# Altium footprint library Cesium_3.PcbLib: 30 footprints (part 2 of 2)
Each footprint in its own frame and in the unit in brackets; x right, y up, seen from the top. Pads: shape width x height; smd on the part's side, far side on the other; paste and mask are expansions set on the pad; w line width, h text height; cw(c..) or ccw(c..) is an arc to the next point about the centre after c.
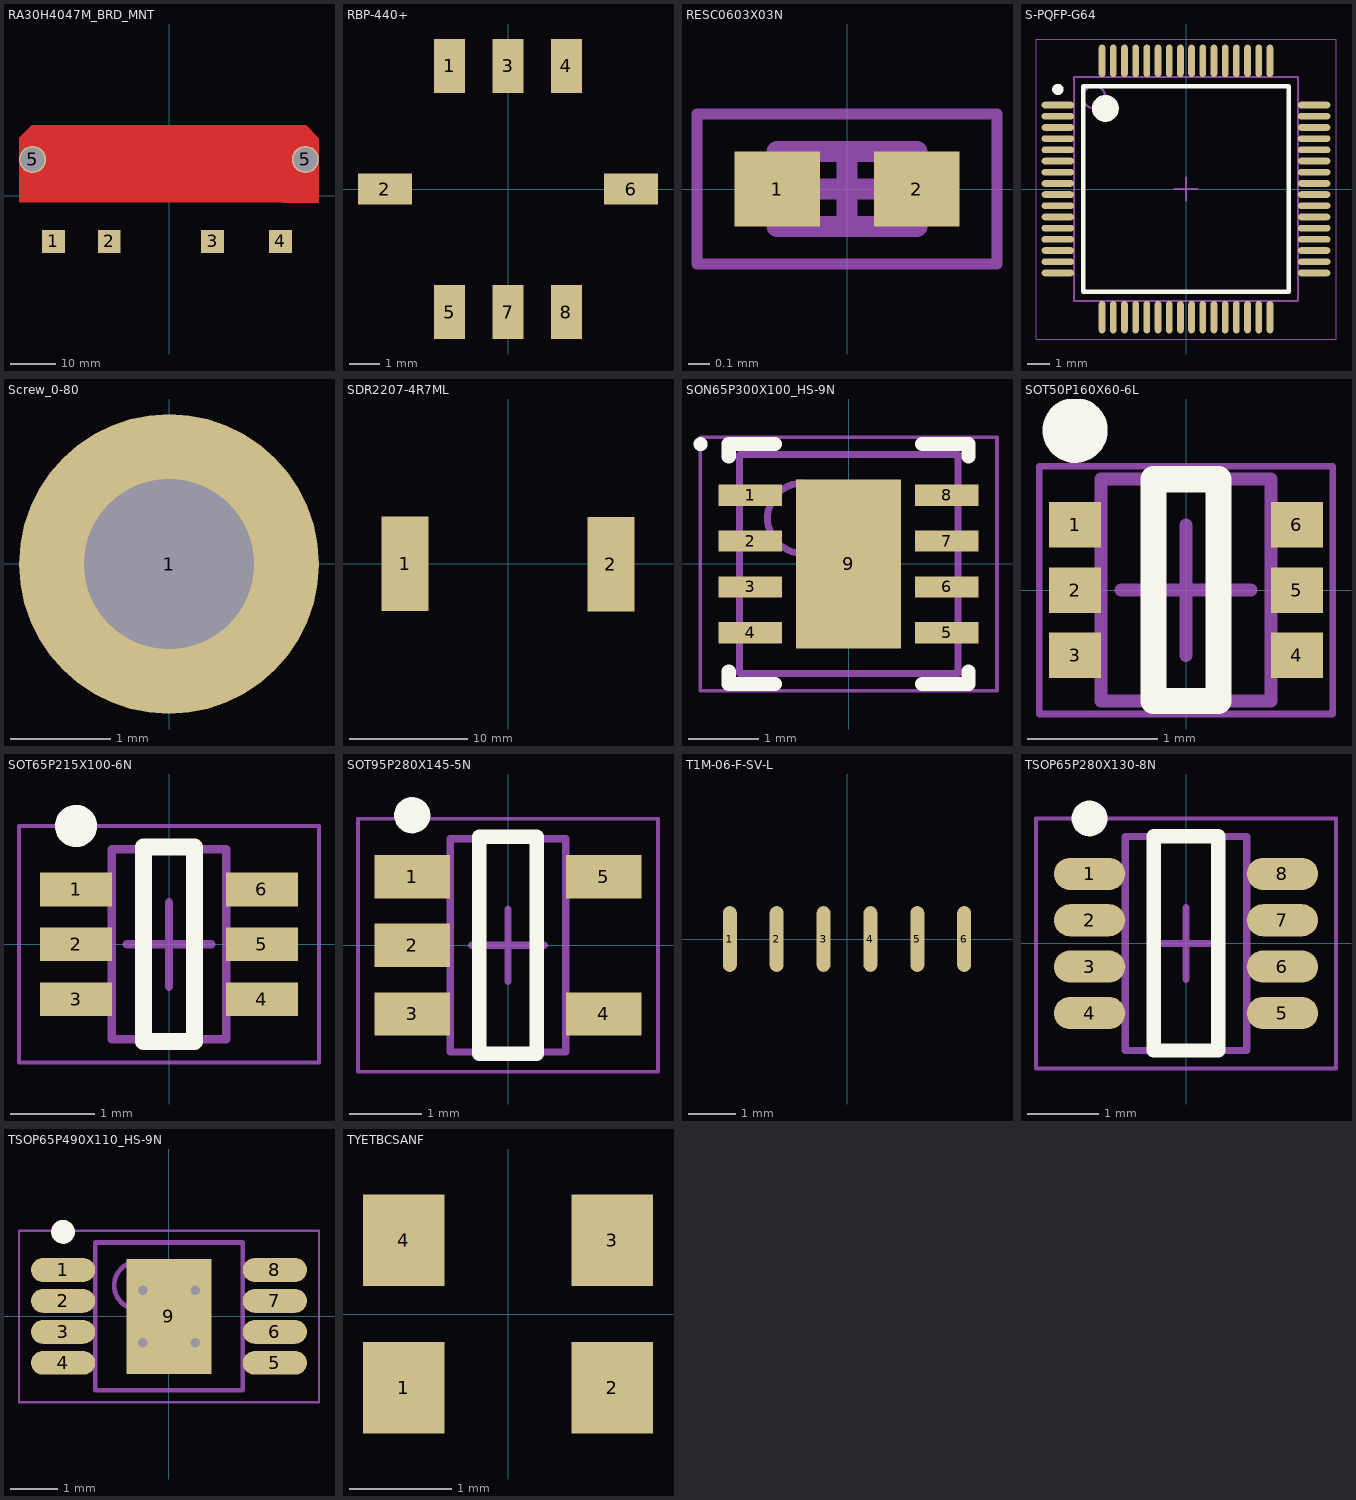
[diagram p1: the footprints below, top view; thin cyan lines are the x and y axes]

## RA30H4047M_BRD_MNT [mm]
pads (6):
  rect 5x5 smd: 1(-25.451,-10.058) 2(-13.132,-10.058) 3(9.601,-10.058) 4(24.562,-10.058)
  round 6 hole 5.3: 5(-30.048,8.001) 5(30.048,8.001)
Top Layer:
  region: -33.02,-1.473 -33.02,12.776 -30.251,15.545 25.3,15.544 25.3,-1.473
  region: -32.36,15.011
  region: -32.36,15.011
  region: 32.995,-1.524 32.995,12.725 30.226,15.494 25.121,15.494 25.121,-1.524
3D body: height 2.73, standoff -2.22, extent -36.4,16.6 -36.4,16.6
3D body: height 2.73, standoff -2.22, extent -36.4,16.6 -36.4,16.6
3D body "534-4891 v1.step": height 1.6, standoff -1.49, extent -33.618,4.434 -26.478,11.568
3D body "RA30H4047M v20.step": height 9.88, standoff -0.05, extent -33,-11.614 33,17.5
3D body "534-4891 v1.step": height 1.6, standoff -1.49, extent 26.478,4.434 33.618,11.568
3D body "92196A143_18-8 STAINLESS STEEL SOCKET HEAD CAP SCREW.STEP": height 5.87, standoff -2.4, extent 27.178,5.131 32.918,10.871
3D body "92196A143_18-8 STAINLESS STEEL SOCKET HEAD CAP SCREW.STEP": height 5.87, standoff -2.4, extent -32.918,5.131 -27.178,10.871

## RBP-440+ [mm]
pads (8):
  rect 1.02x1.78 smd: 1(-1.93,4.065) 3(0,4.065) 4(1.93,4.065) 5(-1.93,-4.065) 7(0,-4.065) 8(1.93,-4.065)
  rect 1.78x1.02 smd: 2(-4.065,0) 6(4.065,0)
3D body: height 2.54, standoff 0, extent -3.5,-3.5 3.5,3.5

## RESC0603X03N [mm] "Chip Resistor, 2-Leads, Body 0.60x0.30mm, IPC Medium Density"
height 0.28
pads (2):
  rect 0.4x0.35 smd: 1(-0.325,0) 2(0.325,0)
Mechanical 13:
  lines w0.1: -0.325,-0.175 -0.325,0.175 0.325,0.175 0.325,-0.175 -0.325,-0.175
Mechanical 15:
  lines w0.05: -0.7,-0.35 -0.7,0.35 0.7,0.35 0.7,-0.35 -0.7,-0.35
  lines w0.1: -0.175,0 0.175,0 ; 0,-0.175 0,0.175
3D body: height 0.28, standoff 0, extent -0.225,-0.175 0.225,0.175
3D body: height 0.28, standoff 0, extent -0.325,-0.175 -0.225,0.175
3D body: height 0.28, standoff 0, extent 0.225,-0.175 0.325,0.175

## S-PQFP-G64 [mm] "TSQFP, 64-Leads, Body 10.00x10.00mm, Pitch 0.50mm, IPC Medium Density"
height 1.6
pads (64):
  oval 1.45x0.3 smd: 1(-5.725,3.75) 2(-5.725,3.25) 3(-5.725,2.75) 4(-5.725,2.25) 5(-5.725,1.75) 6(-5.725,1.25) 7(-5.725,0.75) 8(-5.725,0.25) 9(-5.725,-0.25) 10(-5.725,-0.75) 11(-5.725,-1.25) 12(-5.725,-1.75) 13(-5.725,-2.25) 14(-5.725,-2.75) 15(-5.725,-3.25) 16(-5.725,-3.75) 33(5.725,-3.75) 34(5.725,-3.25) 35(5.725,-2.75) 36(5.725,-2.25) 37(5.725,-1.75) 38(5.725,-1.25) 39(5.725,-0.75) 40(5.725,-0.25) 41(5.725,0.25) 42(5.725,0.75) 43(5.725,1.25) 44(5.725,1.75) 45(5.725,2.25) 46(5.725,2.75) 47(5.725,3.25) 48(5.725,3.75)
  oval 0.3x1.45 smd: 17(-3.75,-5.725) 18(-3.25,-5.725) 19(-2.75,-5.725) 20(-2.25,-5.725) 21(-1.75,-5.725) 22(-1.25,-5.725) 23(-0.75,-5.725) 24(-0.25,-5.725) 25(0.25,-5.725) 26(0.75,-5.725) 27(1.25,-5.725) 28(1.75,-5.725) 29(2.25,-5.725) 30(2.75,-5.725) 31(3.25,-5.725) 32(3.75,-5.725) 49(3.75,5.725) 50(3.25,5.725) 51(2.75,5.725) 52(2.25,5.725) 53(1.75,5.725) 54(1.25,5.725) 55(0.75,5.725) 56(0.25,5.725) 57(-0.25,5.725) 58(-0.75,5.725) 59(-1.25,5.725) 60(-1.75,5.725) 61(-2.25,5.725) 62(-2.75,5.725) 63(-3.25,5.725) 64(-3.75,5.725)
Top Overlay:
  circle w0.6: c-3.6,3.6 r0.3
  circle w0.25: c-5.725,4.45 r0.125
  lines w0.2: -4.6,-4.6 4.6,-4.6 4.6,4.6 -4.6,4.6 -4.6,-4.6
Mechanical 13:
  circle w0.1: c-4.1,4.1 r0.5
  lines w0.1: -5,-5 5,-5 5,5 -5,5 -5,-5
Mechanical 15:
  lines w0.05: -6.7,-6.7 6.7,-6.7 6.7,6.7 -6.7,6.7 -6.7,-6.7
  lines w0.1: -0.5,0 0.5,0 ; 0,-0.5 0,0.5
3D body: height 1.6, standoff 0.25, extent -5,-5 5,5

## Screw_0-80 [mm]
pads (1):
  round 3 hole 1.7: 1(0,0)
3D body "95435A101_TITANIUM SOCKET HEAD CAP SCREW.STEP": height 1.52, standoff -3.18, extent -1.219,-1.219 1.219,1.219

## SDR2207-4R7ML [mm]
pads (2):
  rect 4x8 smd: 1(-8.75,0) 2(8.75,-0.05)
3D body: height 7.8, standoff 0, extent -11,-7.5 11,7.5

## SON65P300X100_HS-9N [mm] "SON, 8-Leads, Body 3.00x3.00mm, Pitch 0.65mm, Thermal Pad 2.40x1.49mm, IPC Medium Density"
height 1
pads (9):
  rect 0.9x0.3 smd: 1(-1.395,0.975) 2(-1.395,0.325) 3(-1.395,-0.325) 4(-1.395,-0.975) 5(1.395,-0.975) 6(1.395,-0.325) 7(1.395,0.325) 8(1.395,0.975)
  rect 1.49x2.4 smd: 9(0,0)
Top Overlay:
  circle w0.1: c-2.1,1.7 r0.05
  lines w0.2: -1.7,-1.525 -1.7,-1.7 -1.045,-1.7 ; -1.7,1.525 -1.7,1.7 -1.045,1.7 ; 1.045,-1.7 1.7,-1.7 1.7,-1.525 ; 1.045,1.7 1.7,1.7 1.7,1.525
Mechanical 13:
  circle w0.1: c-0.65,0.65 r0.5
  lines w0.1: -1.55,-1.55 -1.55,1.55 1.55,1.55 1.55,-1.55 -1.55,-1.55
Mechanical 15:
  lines w0.05: -2.105,-1.8 -2.105,1.8 2.105,1.8 2.105,-1.8 -2.105,-1.8
  lines w0.1: -0.5,0 0.5,0 ; 0,-0.5 0,0.5
3D body: height 1, standoff 0.05, extent -1.55,-1.55 1.55,1.55

## SOT50P160X60-6L [mm] "SOT23, 6-Leads, Body 1.60x1.60mm, Pitch 0.50mm, IPC High Density"
height 0.6
pads (6):
  rect 0.4x0.35 smd: 1(-0.85,0.5) 2(-0.85,0) 3(-0.85,-0.5) 4(0.85,-0.5) 5(0.85,0) 6(0.85,0.5)
Top Overlay:
  circle w0.25: c-0.85,1.225 r0.125
  lines w0.2: -0.25,-0.85 -0.25,0.85 0.25,0.85 0.25,-0.85 -0.25,-0.85
Mechanical 13:
  lines w0.1: -0.65,-0.85 0.65,-0.85 0.65,0.85 -0.65,0.85 -0.65,-0.85
Mechanical 15:
  lines w0.05: -1.125,-0.95 1.125,-0.95 1.125,0.95 -1.125,0.95 -1.125,-0.95
  lines w0.1: -0.5,0 0.5,0 ; 0,-0.5 0,0.5
3D body: height 0.6, standoff 0, extent -0.65,-0.85 0.65,0.85

## SOT65P215X100-6N [mm] "SOT23, 6-Leads, Body 2.05x2.15mm, Pitch 0.65mm, IPC Medium Density"
height 1
pads (6):
  rect 0.85x0.4 smd: 1(-1.1,0.65) 2(-1.1,0) 3(-1.1,-0.65) 4(1.1,-0.65) 5(1.1,0) 6(1.1,0.65)
Top Overlay:
  circle w0.25: c-1.1,1.4 r0.125
  lines w0.2: -0.3,-1.15 -0.3,1.15 0.3,1.15 0.3,-1.15 -0.3,-1.15
Mechanical 13:
  lines w0.1: -0.675,-1.125 0.675,-1.125 0.675,1.125 -0.675,1.125 -0.675,-1.125
Mechanical 15:
  lines w0.05: -1.775,-1.4 1.775,-1.4 1.775,1.4 -1.775,1.4 -1.775,-1.4
  lines w0.1: -0.5,0 0.5,0 ; 0,-0.5 0,0.5
3D body: height 1, standoff 0.15, extent -0.675,-1.125 0.675,1.125

## SOT95P280X145-5N [mm] "SOT23, 5-Leads, Body 2.95x2.80mm, Pitch 0.95mm, IPC Medium Density"
height 1.45
pads (5):
  rect 1.05x0.6 smd: 1(-1.325,0.95) 2(-1.325,0) 3(-1.325,-0.95) 4(1.325,-0.95) 5(1.325,0.95)
Top Overlay:
  circle w0.25: c-1.325,1.8 r0.125
  lines w0.2: -0.4,-1.5 0.4,-1.5 0.4,1.5 -0.4,1.5 -0.4,-1.5
Mechanical 13:
  lines w0.1: -0.8,-1.475 -0.8,1.475 0.8,1.475 0.8,-1.475 -0.8,-1.475
Mechanical 15:
  lines w0.05: -2.075,-1.75 -2.075,1.75 2.075,1.75 2.075,-1.75 -2.075,-1.75
  lines w0.1: -0.5,0 0.5,0 ; 0,-0.5 0,0.5
3D body: height 1.45, standoff 0, extent -0.8,-1.475 0.8,1.475

## T1M-06-F-SV-L [mm]
pads (6):
  oval 0.3x1.4 smd: 1(-2.5,0) 2(-1.5,0) 3(-0.5,0) 4(0.5,0) 5(1.5,0) 6(2.5,0)
3D body "T1M-06-F-SV-L.stp": height 5.5, standoff 0, extent -4.2,-0.3 4.2,4.65

## TSOP65P280X130-8N [mm] "TSOP, 8-Leads, Body 2.90x1.60mm, Pitch 0.65mm, IPC Medium Density"
height 1.3
pads (8):
  oval 1x0.45 smd: 1(-1.35,0.975) 2(-1.35,0.325) 3(-1.35,-0.325) 4(-1.35,-0.975) 5(1.35,-0.975) 6(1.35,-0.325) 7(1.35,0.325) 8(1.35,0.975)
Top Overlay:
  circle w0.25: c-1.35,1.75 r0.125
  lines w0.2: -0.45,-1.5 -0.45,1.5 0.45,1.5 0.45,-1.5 -0.45,-1.5
Mechanical 13:
  lines w0.1: -0.85,-1.5 -0.85,1.5 0.85,1.5 0.85,-1.5 -0.85,-1.5
Mechanical 15:
  lines w0.05: -2.1,-1.75 -2.1,1.75 2.1,1.75 2.1,-1.75 -2.1,-1.75
  lines w0.1: -0.5,0 0.5,0 ; 0,-0.5 0,0.5
3D body: height 1.3, standoff 0.05, extent -0.85,-1.5 0.85,1.5

## TSOP65P490X110_HS-9N [mm] "TSOP, 8-Leads, Body 3.00x3.00mm, Pitch 0.65mm, Thermal Pad 2.41x1.78mm, IPC Medium Density"
height 1.1
pads (9):
  oval 1.35x0.5 smd: 1(-2.225,0.975) 2(-2.225,0.325) 3(-2.225,-0.325) 4(-2.225,-0.975) 5(2.225,-0.975) 6(2.225,-0.325) 7(2.225,0.325) 8(2.225,0.975)
  rect 1.78x2.41 smd: 9(0,0)
via -0.55,0.55 diameter 0.5 hole 0.2
via 0.55,0.55 diameter 0.5 hole 0.2
via -0.55,-0.55 diameter 0.5 hole 0.2
via 0.55,-0.55 diameter 0.5 hole 0.2
Top Overlay:
  circle w0.25: c-2.225,1.775 r0.125
Mechanical 13:
  circle w0.1: c-0.65,0.65 r0.5
  lines w0.1: -1.55,-1.55 -1.55,1.55 1.55,1.55 1.55,-1.55 -1.55,-1.55
Mechanical 15:
  lines w0.05: -3.15,-1.8 -3.15,1.8 3.15,1.8 3.15,-1.8 -3.15,-1.8
  lines w0.1: -0.5,0 0.5,0 ; 0,-0.5 0,0.5
3D body: height 1.1, standoff 0, extent -1.55,-1.55 1.55,1.55

## TYETBCSANF [mm]
pads (4):
  rect 0.8x0.9 smd: 1(-1.025,-0.725) 2(1.025,-0.725) 3(1.025,0.725) 4(-1.025,0.725)
3D body: height 0.8, standoff 0, extent -1.25,-1 1.25,1